# Altium integrated library Micron Memory Parallel NOR Flash.IntLib: 720 symbols (part 12 of 216)
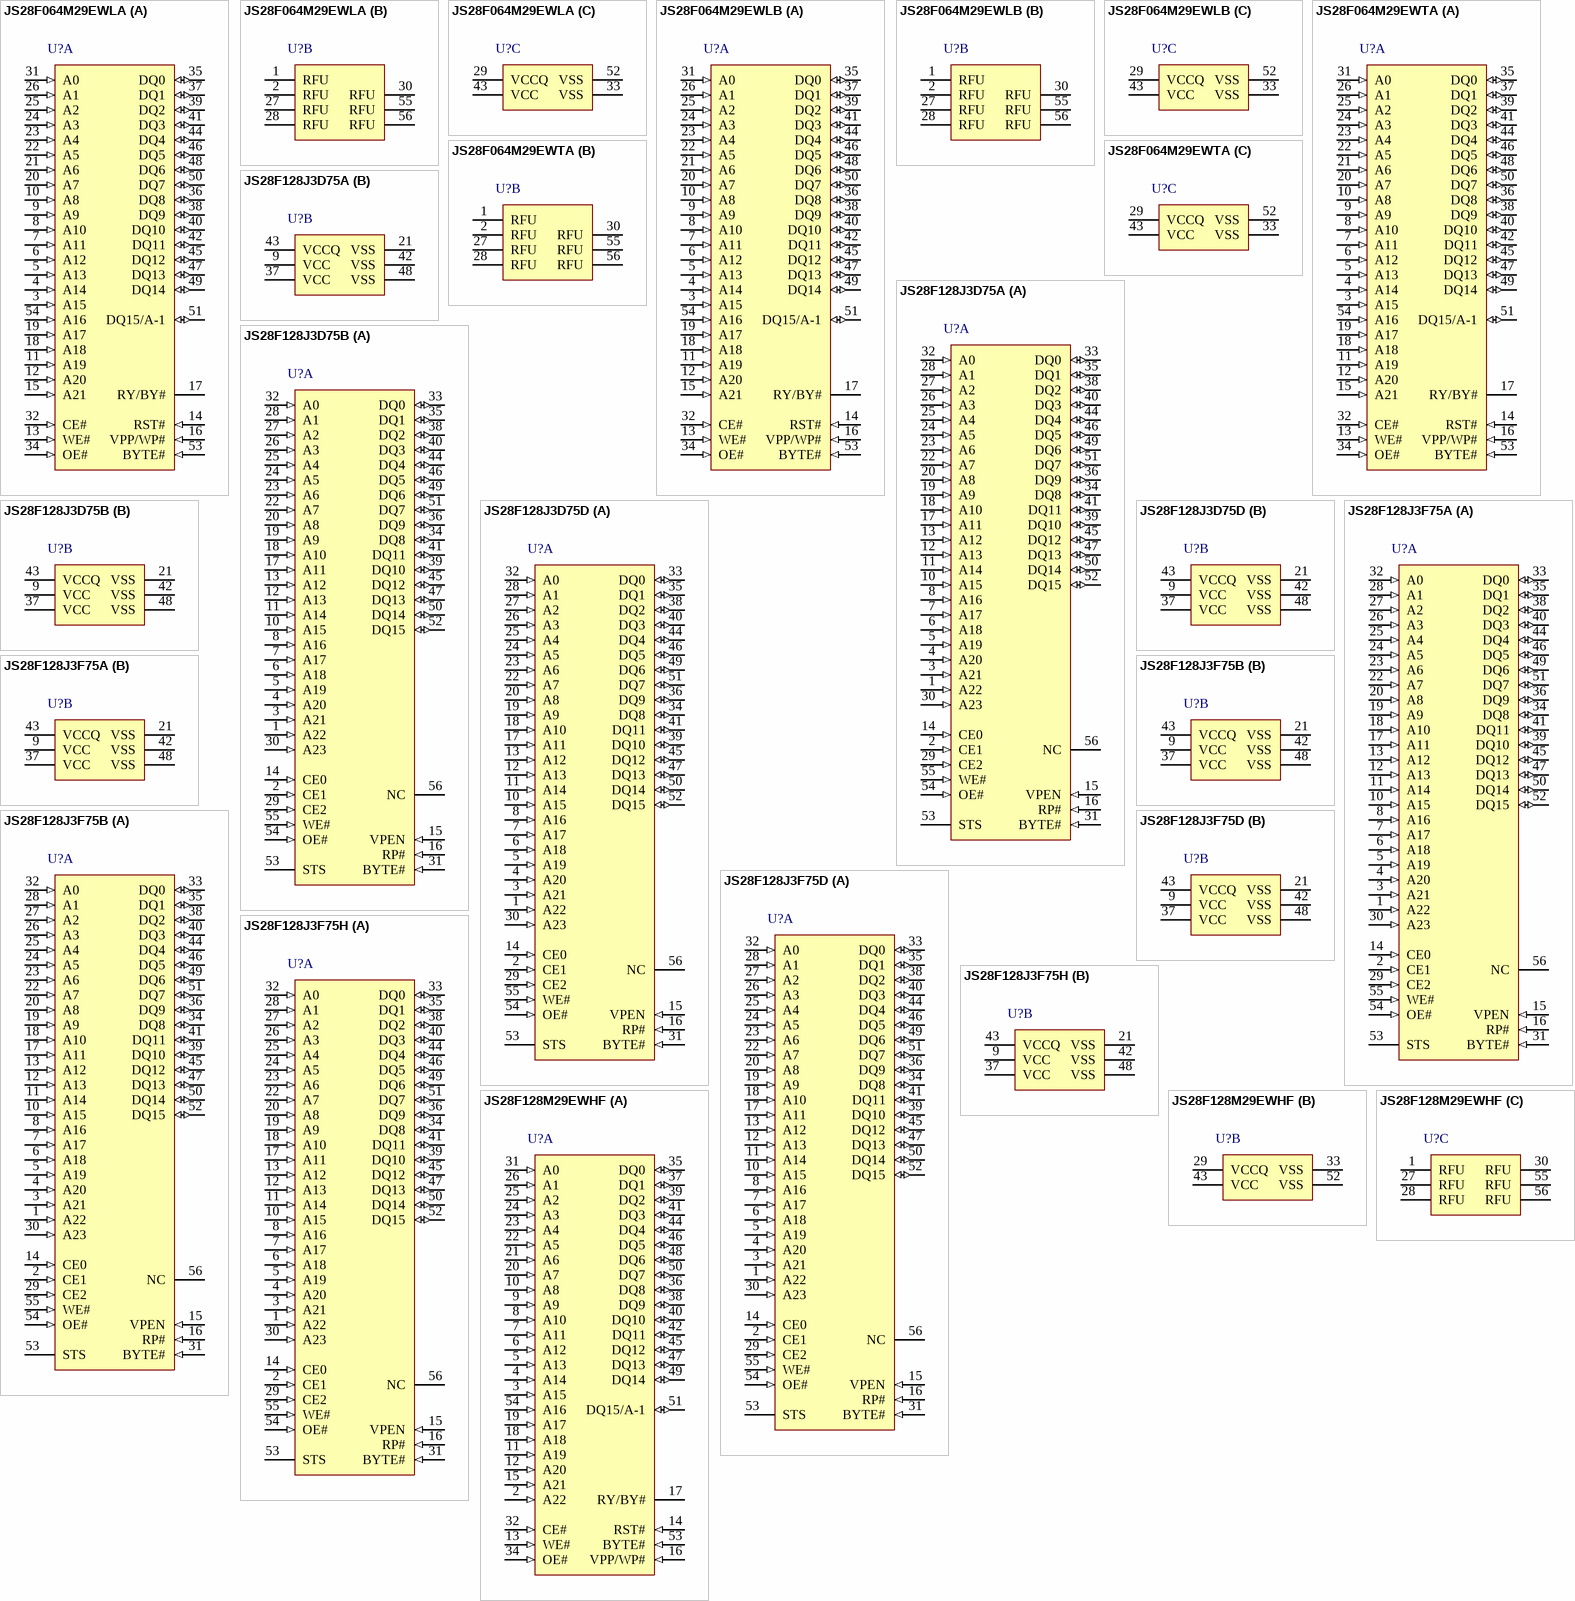
[diagram p75: symbols JS28F064M29EWLA to JS28F128M29EWHF]

## JS28F128M29EWHF
designator U?
128 Mb (x8/x16) Parallel NOR Flash Memory, 70 ns, 2.7 to 3.6 V, 56-pin TSOP (JS), Tray; Part Family: M29EW; Manufacturer: Micron; PartNumber: JS28F128M29EWHF; Density: 128Mb; Op Temp: -40C to +85C; Speed: 70ns; Voltage: 2.7V-3.6V; DatasheetVersion: Rev. A; PackageVersion: Rev. 12; PackageReference: MICT-JS-56; PackageDescription: 56-Pin TSOP, 18.4 X 14 mm, Pitch 0.5 mm; RoHS: Yes; Width: x8/x16; Mounting Technology: Surface Mount; ComponentLink1Description: Manufacturer URL; ComponentLink1URL: http://www.micron.com/; ComponentLink2Description: Datasheet; ComponentLink2URL: http://www.micron.com/~/media/Documents/Products/Data%20Sheet/NOR%20Flash/Parallel/M29EW/m29ew_32mb_128mb.pdf; ComponentLink3Description: Package Specification; ComponentLink3URL: http://www.micron.com/~/media/Documents/Products/Data%20Sheet/NOR%20Flash/Parallel/P33/320003_P33_65nm_MLC_256MDiscrete_512MStack_DS.pdf
footprint MICT-JS-56_N (SOP, 56-Leads, Body 18.6x14.2mm, Pitch 0.5mm, IPC Medium Density)
part A pins: 2 A22 (in) "Address: Selects the cells in the array to access during READ operations. During WRITE operations, they control the commands sent to the command interface of the program/erase controller.", 3 A15 (in) "Address: Selects the cells in the array to access during READ operations. During WRITE operations, they control the commands sent to the command interface of the program/erase controller.", 4 A14 (in) "Address: Selects the cells in the array to access during READ operations. During WRITE operations, they control the commands sent to the command interface of the program/erase controller.", 5 A13 (in) "Address: Selects the cells in the array to access during READ operations. During WRITE operations, they control the commands sent to the command interface of the program/erase controller.", 6 A12 (in) "Address: Selects the cells in the array to access during READ operations. During WRITE operations, they control the commands sent to the command interface of the program/erase controller.", 7 A11 (in) "Address: Selects the cells in the array to access during READ operations. During WRITE operations, they control the commands sent to the command interface of the program/erase controller.", 8 A10 (in) "Address: Selects the cells in the array to access during READ operations. During WRITE operations, they control the commands sent to the command interface of the program/erase controller.", 9 A9 (in) "Address: Selects the cells in the array to access during READ operations. During WRITE operations, they control the commands sent to the command interface of the program/erase controller.", 10 A8 (in) "Address: Selects the cells in the array to access during READ operations. During WRITE operations, they control the commands sent to the command interface of the program/erase controller.", 11 A19 (in) "Address: Selects the cells in the array to access during READ operations. During WRITE operations, they control the commands sent to the command interface of the program/erase controller.", 12 A20 (in) "Address: Selects the cells in the array to access during READ operations. During WRITE operations, they control the commands sent to the command interface of the program/erase controller.", 13 WE# (in) "Write enable: Controls the bus WRITE operation of the command interface.", 14 RST# (in) "Reset: Applies a hardware reset to the device, which is achieved by holding RST# LOW for at least tPLPX. After RST# goes HIGH, the device is ready for READ and WRITE operations (after tPHEL or tRHEL, whichever occurs last). (See Datasheet)", 15 A21 (in) "Address: Selects the cells in the array to access during READ operations. During WRITE operations, they control the commands sent to the command interface of the program/erase controller.", 16 VPP/WP# (in) "VPP/Write Protect: Provides WRITE PROTECT function and VPPH function. These functions protect the lowest or highest block or top two blocks or bottom two blocks, enable the device to enter unlock bypass mode and accelerate (See Datasheet)", 17 RY/BY# (hiz) "Ready busy: Open-drain output that can be used to identify when the device is performing a PROGRAM or ERASE operation. During PROGRAM or ERASE operations, RY/BY# is LOW, and is High-Z during read mode, auto select mode, and (See Datasheet)", 18 A18 (in) "Address: Selects the cells in the array to access during READ operations. During WRITE operations, they control the commands sent to the command interface of the program/erase controller.", 19 A17 (in) "Address: Selects the cells in the array to access during READ operations. During WRITE operations, they control the commands sent to the command interface of the program/erase controller.", 20 A7 (in) "Address: Selects the cells in the array to access during READ operations. During WRITE operations, they control the commands sent to the command interface of the program/erase controller.", 21 A6 (in) "Address: Selects the cells in the array to access during READ operations. During WRITE operations, they control the commands sent to the command interface of the program/erase controller.", 22 A5 (in) "Address: Selects the cells in the array to access during READ operations. During WRITE operations, they control the commands sent to the command interface of the program/erase controller.", 23 A4 (in) "Address: Selects the cells in the array to access during READ operations. During WRITE operations, they control the commands sent to the command interface of the program/erase controller.", 24 A3 (in) "Address: Selects the cells in the array to access during READ operations. During WRITE operations, they control the commands sent to the command interface of the program/erase controller.", 25 A2 (in) "Address: Selects the cells in the array to access during READ operations. During WRITE operations, they control the commands sent to the command interface of the program/erase controller.", 26 A1 (in) "Address: Selects the cells in the array to access during READ operations. During WRITE operations, they control the commands sent to the command interface of the program/erase controller.", 31 A0 (in) "Address: Selects the cells in the array to access during READ operations. During WRITE operations, they control the commands sent to the command interface of the program/erase controller.", 32 CE# (in) "Chip enable: Activates the device, enabling READ and WRITE operations to be performed. When CE# is HIGH, the device goes to standby and data outputs are at HIGH-Z.", 34 OE# (in) "Output enable: Controls the bus READ operation.", 35 DQ0 (io) "Data I/O: Output the data stored at the selected address during a READ operation. During WRITE operations, they represent the commands sent to the command interface of the internal state machine.", 36 DQ8 (io) "Data I/O: Output the data stored at the selected address during a READ operation when BYTE# is HIGH. When BYTE# is LOW, these pins are not used and are High-Z. During WRITE operations, these bits are not used. When reading (See Datasheet)", 37 DQ1 (io) "Data I/O: Output the data stored at the selected address during a READ operation. During WRITE operations, they represent the commands sent to the command interface of the internal state machine.", 38 DQ9 (io) "Data I/O: Output the data stored at the selected address during a READ operation when BYTE# is HIGH. When BYTE# is LOW, these pins are not used and are High-Z. During WRITE operations, these bits are not used. When reading (See Datasheet)", 39 DQ2 (io) "Data I/O: Output the data stored at the selected address during a READ operation. During WRITE operations, they represent the commands sent to the command interface of the internal state machine.", 40 DQ10 (io) "Data I/O: Output the data stored at the selected address during a READ operation when BYTE# is HIGH. When BYTE# is LOW, these pins are not used and are High-Z. During WRITE operations, these bits are not used. When reading (See Datasheet)", 41 DQ3 (io) "Data I/O: Output the data stored at the selected address during a READ operation. During WRITE operations, they represent the commands sent to the command interface of the internal state machine.", 42 DQ11 (io) "Data I/O: Output the data stored at the selected address during a READ operation when BYTE# is HIGH. When BYTE# is LOW, these pins are not used and are High-Z. During WRITE operations, these bits are not used. When reading (See Datasheet)", 44 DQ4 (io) "Data I/O: Output the data stored at the selected address during a READ operation. During WRITE operations, they represent the commands sent to the command interface of the internal state machine.", 45 DQ12 (io) "Data I/O: Output the data stored at the selected address during a READ operation when BYTE# is HIGH. When BYTE# is LOW, these pins are not used and are High-Z. During WRITE operations, these bits are not used. When reading (See Datasheet)", 46 DQ5 (io) "Data I/O: Output the data stored at the selected address during a READ operation. During WRITE operations, they represent the commands sent to the command interface of the internal state machine.", 47 DQ13 (io) "Data I/O: Output the data stored at the selected address during a READ operation when BYTE# is HIGH. When BYTE# is LOW, these pins are not used and are High-Z. During WRITE operations, these bits are not used. When reading (See Datasheet)", 48 DQ6 (io) "Data I/O: Output the data stored at the selected address during a READ operation. During WRITE operations, they represent the commands sent to the command interface of the internal state machine.", 49 DQ14 (io) "Data I/O: Output the data stored at the selected address during a READ operation when BYTE# is HIGH. When BYTE# is LOW, these pins are not used and are High-Z. During WRITE operations, these bits are not used. When reading (See Datasheet)", 50 DQ7 (io) "Data I/O: Output the data stored at the selected address during a READ operation. During WRITE operations, they represent the commands sent to the command interface of the internal state machine.", 51 DQ15/A-1 (io) "Data I/O or address input: When the device operates in x16 bus mode, this pin behaves as data I/O, together with DQ[14:8]. When the device operates in x8 bus mode, this pin behaves as the least significant bit of the address.(See Datasheet)", 53 BYTE# (in) "Byte/word organization select: Switches between x8 and x16 bus modes. When BYTE# is LOW, the device is in x8 mode; when HIGH, the device is in x16 mode.", 54 A16 (in) "Address: Selects the cells in the array to access during READ operations. During WRITE operations, they control the commands sent to the command interface of the program/erase controller."
part B pins: 29 VCCQ (power) "I/O supply voltage: Provides the power supply to the I/O pins and enables all outputs to be powered independently from VCC.", 33 VSS (power) "Ground: All VSS pins must be connected to the system ground.", 43 VCC (power) "Supply voltage: Provides the power supply for READ, PROGRAM, and ERASE operations. The command interface is disabled when VCC <= VLKO. This prevents WRITE operations from accidentally damaging the data during power-up, (See Datasheet)", 52 VSS (power) "Ground: All VSS pins must be connected to the system ground."
part C pins: 1 RFU "Reserved for future use: RFUs should be not connected.", 27 RFU "Reserved for future use: RFUs should be not connected.", 28 RFU "Reserved for future use: RFUs should be not connected.", 30 RFU "Reserved for future use: RFUs should be not connected.", 55 RFU "Reserved for future use: RFUs should be not connected.", 56 RFU "Reserved for future use: RFUs should be not connected."

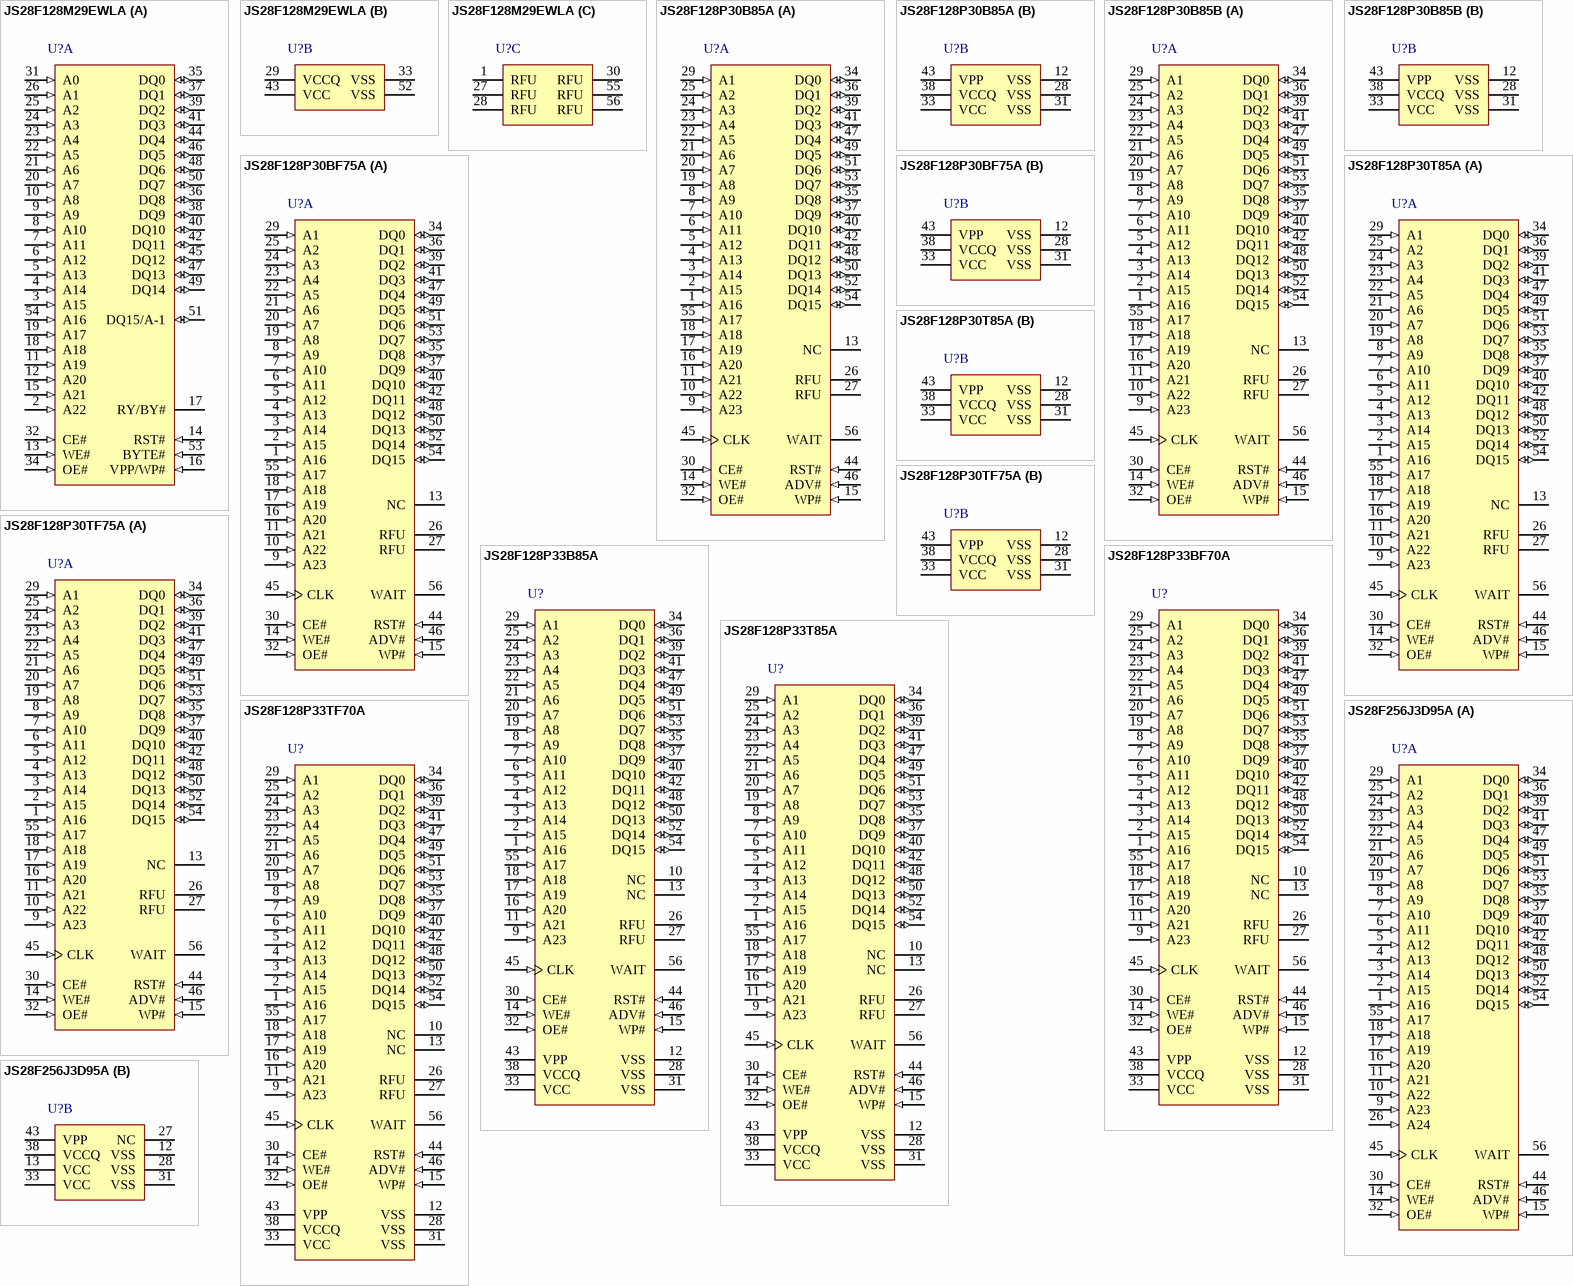
[diagram p3: symbols JS28F128M29EWLA to JS28F256J3D95A]

## JS28F128M29EWLA
designator U?
128 Mb (x8/x16) Parallel NOR Flash Memory, 70 ns, 2.7 to 3.6 V, 56-pin TSOP (JS), Tray; Part Family: M29EW; Manufacturer: Micron; PartNumber: JS28F128M29EWLA; Density: 128Mb; Op Temp: -40C to +85C; Speed: 70ns; Voltage: 2.7V-3.6V; DatasheetVersion: Rev. A; PackageVersion: Rev. 12; PackageReference: MICT-JS-56; PackageDescription: 56-Pin TSOP, 18.4 X 14 mm, Pitch 0.5 mm; RoHS: Yes; Width: x8/x16; Mounting Technology: Surface Mount; ComponentLink1Description: Manufacturer URL; ComponentLink1URL: http://www.micron.com/; ComponentLink2Description: Datasheet; ComponentLink2URL: http://www.micron.com/~/media/Documents/Products/Data%20Sheet/NOR%20Flash/Parallel/M29EW/m29ew_32mb_128mb.pdf; ComponentLink3Description: Package Specification; ComponentLink3URL: http://www.micron.com/~/media/Documents/Products/Data%20Sheet/NOR%20Flash/Parallel/P33/320003_P33_65nm_MLC_256MDiscrete_512MStack_DS.pdf
footprint MICT-JS-56_N (SOP, 56-Leads, Body 18.6x14.2mm, Pitch 0.5mm, IPC Medium Density)
part A pins: 2 A22 (in) "Address: Selects the cells in the array to access during READ operations. During WRITE operations, they control the commands sent to the command interface of the program/erase controller.", 3 A15 (in) "Address: Selects the cells in the array to access during READ operations. During WRITE operations, they control the commands sent to the command interface of the program/erase controller.", 4 A14 (in) "Address: Selects the cells in the array to access during READ operations. During WRITE operations, they control the commands sent to the command interface of the program/erase controller.", 5 A13 (in) "Address: Selects the cells in the array to access during READ operations. During WRITE operations, they control the commands sent to the command interface of the program/erase controller.", 6 A12 (in) "Address: Selects the cells in the array to access during READ operations. During WRITE operations, they control the commands sent to the command interface of the program/erase controller.", 7 A11 (in) "Address: Selects the cells in the array to access during READ operations. During WRITE operations, they control the commands sent to the command interface of the program/erase controller.", 8 A10 (in) "Address: Selects the cells in the array to access during READ operations. During WRITE operations, they control the commands sent to the command interface of the program/erase controller.", 9 A9 (in) "Address: Selects the cells in the array to access during READ operations. During WRITE operations, they control the commands sent to the command interface of the program/erase controller.", 10 A8 (in) "Address: Selects the cells in the array to access during READ operations. During WRITE operations, they control the commands sent to the command interface of the program/erase controller.", 11 A19 (in) "Address: Selects the cells in the array to access during READ operations. During WRITE operations, they control the commands sent to the command interface of the program/erase controller.", 12 A20 (in) "Address: Selects the cells in the array to access during READ operations. During WRITE operations, they control the commands sent to the command interface of the program/erase controller.", 13 WE# (in) "Write enable: Controls the bus WRITE operation of the command interface.", 14 RST# (in) "Reset: Applies a hardware reset to the device, which is achieved by holding RST# LOW for at least tPLPX. After RST# goes HIGH, the device is ready for READ and WRITE operations (after tPHEL or tRHEL, whichever occurs last). (See Datasheet)", 15 A21 (in) "Address: Selects the cells in the array to access during READ operations. During WRITE operations, they control the commands sent to the command interface of the program/erase controller.", 16 VPP/WP# (in) "VPP/Write Protect: Provides WRITE PROTECT function and VPPH function. These functions protect the lowest or highest block or top two blocks or bottom two blocks, enable the device to enter unlock bypass mode and accelerate (See Datasheet)", 17 RY/BY# (hiz) "Ready busy: Open-drain output that can be used to identify when the device is performing a PROGRAM or ERASE operation. During PROGRAM or ERASE operations, RY/BY# is LOW, and is High-Z during read mode, auto select mode, and (See Datasheet)", 18 A18 (in) "Address: Selects the cells in the array to access during READ operations. During WRITE operations, they control the commands sent to the command interface of the program/erase controller.", 19 A17 (in) "Address: Selects the cells in the array to access during READ operations. During WRITE operations, they control the commands sent to the command interface of the program/erase controller.", 20 A7 (in) "Address: Selects the cells in the array to access during READ operations. During WRITE operations, they control the commands sent to the command interface of the program/erase controller.", 21 A6 (in) "Address: Selects the cells in the array to access during READ operations. During WRITE operations, they control the commands sent to the command interface of the program/erase controller.", 22 A5 (in) "Address: Selects the cells in the array to access during READ operations. During WRITE operations, they control the commands sent to the command interface of the program/erase controller.", 23 A4 (in) "Address: Selects the cells in the array to access during READ operations. During WRITE operations, they control the commands sent to the command interface of the program/erase controller.", 24 A3 (in) "Address: Selects the cells in the array to access during READ operations. During WRITE operations, they control the commands sent to the command interface of the program/erase controller.", 25 A2 (in) "Address: Selects the cells in the array to access during READ operations. During WRITE operations, they control the commands sent to the command interface of the program/erase controller.", 26 A1 (in) "Address: Selects the cells in the array to access during READ operations. During WRITE operations, they control the commands sent to the command interface of the program/erase controller.", 31 A0 (in) "Address: Selects the cells in the array to access during READ operations. During WRITE operations, they control the commands sent to the command interface of the program/erase controller.", 32 CE# (in) "Chip enable: Activates the device, enabling READ and WRITE operations to be performed. When CE# is HIGH, the device goes to standby and data outputs are at HIGH-Z.", 34 OE# (in) "Output enable: Controls the bus READ operation.", 35 DQ0 (io) "Data I/O: Output the data stored at the selected address during a READ operation. During WRITE operations, they represent the commands sent to the command interface of the internal state machine.", 36 DQ8 (io) "Data I/O: Output the data stored at the selected address during a READ operation when BYTE# is HIGH. When BYTE# is LOW, these pins are not used and are High-Z. During WRITE operations, these bits are not used. When reading (See Datasheet)", 37 DQ1 (io) "Data I/O: Output the data stored at the selected address during a READ operation. During WRITE operations, they represent the commands sent to the command interface of the internal state machine.", 38 DQ9 (io) "Data I/O: Output the data stored at the selected address during a READ operation when BYTE# is HIGH. When BYTE# is LOW, these pins are not used and are High-Z. During WRITE operations, these bits are not used. When reading (See Datasheet)", 39 DQ2 (io) "Data I/O: Output the data stored at the selected address during a READ operation. During WRITE operations, they represent the commands sent to the command interface of the internal state machine.", 40 DQ10 (io) "Data I/O: Output the data stored at the selected address during a READ operation when BYTE# is HIGH. When BYTE# is LOW, these pins are not used and are High-Z. During WRITE operations, these bits are not used. When reading (See Datasheet)", 41 DQ3 (io) "Data I/O: Output the data stored at the selected address during a READ operation. During WRITE operations, they represent the commands sent to the command interface of the internal state machine.", 42 DQ11 (io) "Data I/O: Output the data stored at the selected address during a READ operation when BYTE# is HIGH. When BYTE# is LOW, these pins are not used and are High-Z. During WRITE operations, these bits are not used. When reading (See Datasheet)", 44 DQ4 (io) "Data I/O: Output the data stored at the selected address during a READ operation. During WRITE operations, they represent the commands sent to the command interface of the internal state machine.", 45 DQ12 (io) "Data I/O: Output the data stored at the selected address during a READ operation when BYTE# is HIGH. When BYTE# is LOW, these pins are not used and are High-Z. During WRITE operations, these bits are not used. When reading (See Datasheet)", 46 DQ5 (io) "Data I/O: Output the data stored at the selected address during a READ operation. During WRITE operations, they represent the commands sent to the command interface of the internal state machine.", 47 DQ13 (io) "Data I/O: Output the data stored at the selected address during a READ operation when BYTE# is HIGH. When BYTE# is LOW, these pins are not used and are High-Z. During WRITE operations, these bits are not used. When reading (See Datasheet)", 48 DQ6 (io) "Data I/O: Output the data stored at the selected address during a READ operation. During WRITE operations, they represent the commands sent to the command interface of the internal state machine.", 49 DQ14 (io) "Data I/O: Output the data stored at the selected address during a READ operation when BYTE# is HIGH. When BYTE# is LOW, these pins are not used and are High-Z. During WRITE operations, these bits are not used. When reading (See Datasheet)", 50 DQ7 (io) "Data I/O: Output the data stored at the selected address during a READ operation. During WRITE operations, they represent the commands sent to the command interface of the internal state machine.", 51 DQ15/A-1 (io) "Data I/O or address input: When the device operates in x16 bus mode, this pin behaves as data I/O, together with DQ[14:8]. When the device operates in x8 bus mode, this pin behaves as the least significant bit of the address.(See Datasheet)", 53 BYTE# (in) "Byte/word organization select: Switches between x8 and x16 bus modes. When BYTE# is LOW, the device is in x8 mode; when HIGH, the device is in x16 mode.", 54 A16 (in) "Address: Selects the cells in the array to access during READ operations. During WRITE operations, they control the commands sent to the command interface of the program/erase controller."
part B pins: 29 VCCQ (power) "I/O supply voltage: Provides the power supply to the I/O pins and enables all outputs to be powered independently from VCC.", 33 VSS (power) "Ground: All VSS pins must be connected to the system ground.", 43 VCC (power) "Supply voltage: Provides the power supply for READ, PROGRAM, and ERASE operations. The command interface is disabled when VCC <= VLKO. This prevents WRITE operations from accidentally damaging the data during power-up, (See Datasheet)", 52 VSS (power) "Ground: All VSS pins must be connected to the system ground."
part C pins: 1 RFU "Reserved for future use: RFUs should be not connected.", 27 RFU "Reserved for future use: RFUs should be not connected.", 28 RFU "Reserved for future use: RFUs should be not connected.", 30 RFU "Reserved for future use: RFUs should be not connected.", 55 RFU "Reserved for future use: RFUs should be not connected.", 56 RFU "Reserved for future use: RFUs should be not connected."

## JS28F128P30B85A
designator U?
128 Mb (x16) Parallel NOR Flash Memory, 85 ns, 1.7 to 2.0 V, 56-pin TSOP (JS), Tray; Part Family: P30; Manufacturer: Micron; PartNumber: JS28F128P30B85A; Density: 128Mb; Op Temp: -40C to +85C; Speed: 85ns; Voltage: 1.7V-2.0V; DatasheetVersion: Rev. 12; PackageVersion: Rev. 12; PackageReference: MICT-JS-56; PackageDescription: 56-Pin TSOP, 18.4 X 14 mm, Pitch 0.5 mm; RoHS: Yes; Width: x16; Mounting Technology: Surface Mount; ComponentLink1Description: Manufacturer URL; ComponentLink1URL: http://www.micron.com/; ComponentLink2Description: Datasheet; ComponentLink2URL: http://www.micron.com/~/media/Documents/Products/Data%20Sheet/NOR%20Flash/Parallel/P33/320003_P33_65nm_MLC_256MDiscrete_512MStack_DS.pdf; ComponentLink3Description: Package Specification; ComponentLink3URL: http://www.micron.com/~/media/Documents/Products/Data%20Sheet/NOR%20Flash/Parallel/P33/320003_P33_65nm_MLC_256MDiscrete_512MStack_DS.pdf
footprint MICT-JS-56_N (SOP, 56-Leads, Body 18.6x14.2mm, Pitch 0.5mm, IPC Medium Density)
part A pins: 1 A16 (in) "ADDRESS INPUT: Device Address Input. 128-Mbit: A[23:1].", 2 A15 (in) "ADDRESS INPUT: Device Address Input. 128-Mbit: A[23:1].", 3 A14 (in) "ADDRESS INPUT: Device Address Input. 128-Mbit: A[23:1].", 4 A13 (in) "ADDRESS INPUT: Device Address Input. 128-Mbit: A[23:1].", 5 A12 (in) "ADDRESS INPUT: Device Address Input. 128-Mbit: A[23:1].", 6 A11 (in) "ADDRESS INPUT: Device Address Input. 128-Mbit: A[23:1].", 7 A10 (in) "ADDRESS INPUT: Device Address Input. 128-Mbit: A[23:1].", 8 A9 (in) "ADDRESS INPUT: Device Address Input. 128-Mbit: A[23:1].", 9 A23 (in) "ADDRESS INPUT: Device Address Input. 128-Mbit: A[23:1].", 10 A22 (in) "ADDRESS INPUT: Device Address Input. 128-Mbit: A[23:1].", 11 A21 (in) "ADDRESS INPUT: Device Address Input. 128-Mbit: A[23:1].", 13 NC "NO CONNECT: No internal connection; can be driven or floated.", 14 WE# (in) "WRITE ENABLE: Active low input. WE# controls writes to the device. Address and data are latched on the rising edge of WE#.", 15 WP# (in) "WRITE PROTECT: Active low input. WP# low enables the lock-down mechanism. Blocks in lockdown cannot be unlocked with the Unlock command. WP# high overrides the lock-down function enabling blocks to be erased or programmed (See Datasheet)", 16 A20 (in) "ADDRESS INPUT: Device Address Input. 128-Mbit: A[23:1].", 17 A19 (in) "ADDRESS INPUT: Device Address Input. 128-Mbit: A[23:1].", 18 A18 (in) "ADDRESS INPUT: Device Address Input. 128-Mbit: A[23:1].", 19 A8 (in) "ADDRESS INPUT: Device Address Input. 128-Mbit: A[23:1].", 20 A7 (in) "ADDRESS INPUT: Device Address Input. 128-Mbit: A[23:1].", 21 A6 (in) "ADDRESS INPUT: Device Address Input. 128-Mbit: A[23:1].", 22 A5 (in) "ADDRESS INPUT: Device Address Input. 128-Mbit: A[23:1].", 23 A4 (in) "ADDRESS INPUT: Device Address Input. 128-Mbit: A[23:1].", 24 A3 (in) "ADDRESS INPUT: Device Address Input. 128-Mbit: A[23:1].", 25 A2 (in) "ADDRESS INPUT: Device Address Input. 128-Mbit: A[23:1].", 26 RFU "RESERVED FOR FUTURE USE: Reserved by Numonyx for future device functionality and  enhancement. These should be treated in the same way as a Don’t Use (DU) signal.", 27 RFU "RESERVED FOR FUTURE USE: Reserved by Numonyx for future device functionality and  enhancement. These should be treated in the same way as a Don’t Use (DU) signal.", 29 A1 (in) "ADDRESS INPUT: Device Address Input. 128-Mbit: A[23:1].", 30 CE# (in) "CHIP ENABLE: Active low input. CE# low selects the associated flash memory die. When asserted, flash internal control logic, input buffers, decoders, and sense amplifiers are active. When deasserted, the associated flash die (See Datasheet)", 32 OE# (in) "OUTPUT ENABLE: Active low input. OE# low enables the device’s output data buffers during read cycles. OE# high places the data outputs and WAIT in High-Z.", 34 DQ0 (io) "DATA INPUT/OUTPUT: Input data and commands during write cycles; Output data during  reads of memory, Status Register, OTP Register, and Read Configuration Register. Data balls float  when the CE# or OE# are deasserted. Data (See Datasheet)", 35 DQ8 (io) "DATA INPUT/OUTPUT: Input data and commands during write cycles; Output data during  reads of memory, Status Register, OTP Register, and Read Configuration Register. Data balls float  when the CE# or OE# are deasserted. Data (See Datasheet)", 36 DQ1 (io) "DATA INPUT/OUTPUT: Input data and commands during write cycles; Output data during  reads of memory, Status Register, OTP Register, and Read Configuration Register. Data balls float  when the CE# or OE# are deasserted. Data (See Datasheet)", 37 DQ9 (io) "DATA INPUT/OUTPUT: Input data and commands during write cycles; Output data during  reads of memory, Status Register, OTP Register, and Read Configuration Register. Data balls float  when the CE# or OE# are deasserted. Data (See Datasheet)", 39 DQ2 (io) "DATA INPUT/OUTPUT: Input data and commands during write cycles; Output data during  reads of memory, Status Register, OTP Register, and Read Configuration Register. Data balls float  when the CE# or OE# are deasserted. Data (See Datasheet)", 40 DQ10 (io) "DATA INPUT/OUTPUT: Input data and commands during write cycles; Outputs data during  reads of memory, Status Register, OTP Register, and Read Configuration Register. Data balls float  when the CE# or OE# are deasserted. Data (See Datasheet)", 41 DQ3 (io) "DATA INPUT/OUTPUT: Input data and commands during write cycles; Output data during  reads of memory, Status Register, OTP Register, and Read Configuration Register. Data balls float  when the CE# or OE# are deasserted. Data (See Datasheet)", 42 DQ11 (io) "DATA INPUT/OUTPUT: Input data and commands during write cycles; Output data during  reads of memory, Status Register, OTP Register, and Read Configuration Register. Data balls float  when the CE# or OE# are deasserted. Data (See Datasheet)", 44 RST# (in) "RESET: Active low input. RST# resets internal automation and inhibits write operations. This provides data protection during power transitions. RST# high enables normal operation. Exit from reset places the device in (See Datasheet)", 45 CLK (in) "CLOCK: Synchronizes the device with the system’s bus frequency in synchronous-read mode. During synchronous read operations, addresses are latched on the rising edge of ADV#, or on the next valid CLK edge with ADV# low, (See Datasheet)", 46 ADV# (in) "ADDRESS VALID: Active low input. During synchronous read operations, addresses are latched on the rising edge of ADV#, or on the next valid CLK edge with ADV# low, whichever occurs first. In asynchronous mode, the address is (See Datasheet)", 47 DQ4 (io) "DATA INPUT/OUTPUT: Input data and commands during write cycles; Output data during  reads of memory, Status Register, OTP Register, and Read Configuration Register. Data balls float  when the CE# or OE# are deasserted. Data (See Datasheet)", 48 DQ12 (io) "DATA INPUT/OUTPUT: Input data and commands during write cycles; Output data during  reads of memory, Status Register, OTP Register, and Read Configuration Register. Data balls float  when the CE# or OE# are deasserted. Data (See Datasheet)", 49 DQ5 (io) "DATA INPUT/OUTPUT: Input data and commands during write cycles; Output data during  reads of memory, Status Register, OTP Register, and Read Configuration Register. Data balls float  when the CE# or OE# are deasserted. Data (See Datasheet)", 50 DQ13 (io) "DATA INPUT/OUTPUT: Input data and commands during write cycles; Output data during  reads of memory, Status Register, OTP Register, and Read Configuration Register. Data balls float  when the CE# or OE# are deasserted. Data (See Datasheet)", 51 DQ6 (io) "DATA INPUT/OUTPUT: Input data and commands during write cycles; Output data during  reads of memory, Status Register, OTP Register, and Read Configuration Register. Data balls float  when the CE# or OE# are deasserted. Data (See Datasheet)", 52 DQ14 (io) "DATA INPUT/OUTPUT: Input data and commands during write cycles; Output data during  reads of memory, Status Register, OTP Register, and Read Configuration Register. Data balls float  when the CE# or OE# are deasserted. Data (See Datasheet)", 53 DQ7 (io) "DATA INPUT/OUTPUT: Input data and commands during write cycles; Output data during  reads of memory, Status Register, OTP Register, and Read Configuration Register. Data balls float  when the CE# or OE# are deasserted. Data (See Datasheet)", 54 DQ15 (io) "DATA INPUT/OUTPUT: Input data and commands during write cycles; Output data during  reads of memory, Status Register, OTP Register, and Read Configuration Register. Data balls float  when the CE# or OE# are deasserted. Data (See Datasheet)", 55 A17 (in) "ADDRESS INPUT: Device Address Input. 128-Mbit: A[23:1].", 56 WAIT (hiz) "WAIT: Indicates data valid in synchronous array or non-array burst reads. RCR.10, (WT) determines its polarity when asserted. WAIT’s active output is VOL or VOH when CE# and OE# are VIL. WAIT is  high-Z if CE# or OE# is VIH. (See Datasheet)"
part B pins: 12 VSS (power) "GROUND: Connect to system ground. Do not float any VSS connection.", 28 VSS (power) "GROUND: Connect to system ground. Do not float any VSS connection.", 31 VSS (power) "GROUND: Connect to system ground. Do not float any VSS connection.", 33 VCC (power) "DEVICE CORE POWER SUPPLY: Core (logic) source voltage. Writes to the flash array are inhibited  when VCC =< VLKO. Operations at invalid VCC voltages should not be attempted.", 38 VCCQ (power) "OUTPUT POWER SUPPLY: Output-driver source voltage.", 43 VPP (power) "ERASE AND PROGRAM POWER: A valid voltage on this pin allows erasing or programming.  Memory contents cannot be altered when VPP =< VPPLK. Block erase and program at invalid VPP  voltages should not be attempted. Set VPP = (See Datasheet)"

## JS28F128P30B85B
designator U?
128 Mb (x16) Parallel NOR Flash Memory, 85 ns, 1.7 to 2.0 V, 56-pin TSOP (JS), Tape & Reel; Part Family: P30; Manufacturer: Micron; PartNumber: JS28F128P30B85B; Density: 128Mb; Op Temp: -40C to +85C; Speed: 85ns; Voltage: 1.7V-2.0V; DatasheetVersion: Rev. 12; PackageVersion: Rev. 12; PackageReference: MICT-JS-56; PackageDescription: 56-Pin TSOP, 18.4 X 14 mm, Pitch 0.5 mm; RoHS: Yes; Width: x16; Mounting Technology: Surface Mount; ComponentLink1Description: Manufacturer URL; ComponentLink1URL: http://www.micron.com/; ComponentLink2Description: Datasheet; ComponentLink2URL: http://www.micron.com/~/media/Documents/Products/Data%20Sheet/NOR%20Flash/Parallel/P33/320003_P33_65nm_MLC_256MDiscrete_512MStack_DS.pdf; ComponentLink3Description: Package Specification; ComponentLink3URL: http://www.micron.com/~/media/Documents/Products/Data%20Sheet/NOR%20Flash/Parallel/P33/320003_P33_65nm_MLC_256MDiscrete_512MStack_DS.pdf
footprint MICT-JS-56_N (SOP, 56-Leads, Body 18.6x14.2mm, Pitch 0.5mm, IPC Medium Density)
part A pins: 1 A16 (in) "ADDRESS INPUT: Device Address Input. 128-Mbit: A[23:1].", 2 A15 (in) "ADDRESS INPUT: Device Address Input. 128-Mbit: A[23:1].", 3 A14 (in) "ADDRESS INPUT: Device Address Input. 128-Mbit: A[23:1].", 4 A13 (in) "ADDRESS INPUT: Device Address Input. 128-Mbit: A[23:1].", 5 A12 (in) "ADDRESS INPUT: Device Address Input. 128-Mbit: A[23:1].", 6 A11 (in) "ADDRESS INPUT: Device Address Input. 128-Mbit: A[23:1].", 7 A10 (in) "ADDRESS INPUT: Device Address Input. 128-Mbit: A[23:1].", 8 A9 (in) "ADDRESS INPUT: Device Address Input. 128-Mbit: A[23:1].", 9 A23 (in) "ADDRESS INPUT: Device Address Input. 128-Mbit: A[23:1].", 10 A22 (in) "ADDRESS INPUT: Device Address Input. 128-Mbit: A[23:1].", 11 A21 (in) "ADDRESS INPUT: Device Address Input. 128-Mbit: A[23:1].", 13 NC "NO CONNECT: No internal connection; can be driven or floated.", 14 WE# (in) "WRITE ENABLE: Active low input. WE# controls writes to the device. Address and data are latched on the rising edge of WE#.", 15 WP# (in) "WRITE PROTECT: Active low input. WP# low enables the lock-down mechanism. Blocks in lockdown cannot be unlocked with the Unlock command. WP# high overrides the lock-down function enabling blocks to be erased or programmed (See Datasheet)", 16 A20 (in) "ADDRESS INPUT: Device Address Input. 128-Mbit: A[23:1].", 17 A19 (in) "ADDRESS INPUT: Device Address Input. 128-Mbit: A[23:1].", 18 A18 (in) "ADDRESS INPUT: Device Address Input. 128-Mbit: A[23:1].", 19 A8 (in) "ADDRESS INPUT: Device Address Input. 128-Mbit: A[23:1].", 20 A7 (in) "ADDRESS INPUT: Device Address Input. 128-Mbit: A[23:1].", 21 A6 (in) "ADDRESS INPUT: Device Address Input. 128-Mbit: A[23:1].", 22 A5 (in) "ADDRESS INPUT: Device Address Input. 128-Mbit: A[23:1].", 23 A4 (in) "ADDRESS INPUT: Device Address Input. 128-Mbit: A[23:1].", 24 A3 (in) "ADDRESS INPUT: Device Address Input. 128-Mbit: A[23:1].", 25 A2 (in) "ADDRESS INPUT: Device Address Input. 128-Mbit: A[23:1].", 26 RFU "RESERVED FOR FUTURE USE: Reserved by Numonyx for future device functionality and  enhancement. These should be treated in the same way as a Don’t Use (DU) signal.", 27 RFU "RESERVED FOR FUTURE USE: Reserved by Numonyx for future device functionality and  enhancement. These should be treated in the same way as a Don’t Use (DU) signal.", 29 A1 (in) "ADDRESS INPUT: Device Address Input. 128-Mbit: A[23:1].", 30 CE# (in) "CHIP ENABLE: Active low input. CE# low selects the associated flash memory die. When asserted, flash internal control logic, input buffers, decoders, and sense amplifiers are active. When deasserted, the associated flash die (See Datasheet)", 32 OE# (in) "OUTPUT ENABLE: Active low input. OE# low enables the device’s output data buffers during read cycles. OE# high places the data outputs and WAIT in High-Z.", 34 DQ0 (io) "DATA INPUT/OUTPUT: Input data and commands during write cycles; Output data during  reads of memory, Status Register, OTP Register, and Read Configuration Register. Data balls float  when the CE# or OE# are deasserted. Data (See Datasheet)", 35 DQ8 (io) "DATA INPUT/OUTPUT: Input data and commands during write cycles; Output data during  reads of memory, Status Register, OTP Register, and Read Configuration Register. Data balls float  when the CE# or OE# are deasserted. Data (See Datasheet)", 36 DQ1 (io) "DATA INPUT/OUTPUT: Input data and commands during write cycles; Output data during  reads of memory, Status Register, OTP Register, and Read Configuration Register. Data balls float  when the CE# or OE# are deasserted. Data (See Datasheet)", 37 DQ9 (io) "DATA INPUT/OUTPUT: Input data and commands during write cycles; Output data during  reads of memory, Status Register, OTP Register, and Read Configuration Register. Data balls float  when the CE# or OE# are deasserted. Data (See Datasheet)", 39 DQ2 (io) "DATA INPUT/OUTPUT: Input data and commands during write cycles; Output data during  reads of memory, Status Register, OTP Register, and Read Configuration Register. Data balls float  when the CE# or OE# are deasserted. Data (See Datasheet)", 40 DQ10 (io) "DATA INPUT/OUTPUT: Input data and commands during write cycles; Outputs data during  reads of memory, Status Register, OTP Register, and Read Configuration Register. Data balls float  when the CE# or OE# are deasserted. Data (See Datasheet)", 41 DQ3 (io) "DATA INPUT/OUTPUT: Input data and commands during write cycles; Output data during  reads of memory, Status Register, OTP Register, and Read Configuration Register. Data balls float  when the CE# or OE# are deasserted. Data (See Datasheet)", 42 DQ11 (io) "DATA INPUT/OUTPUT: Input data and commands during write cycles; Output data during  reads of memory, Status Register, OTP Register, and Read Configuration Register. Data balls float  when the CE# or OE# are deasserted. Data (See Datasheet)", 44 RST# (in) "RESET: Active low input. RST# resets internal automation and inhibits write operations. This provides data protection during power transitions. RST# high enables normal operation. Exit from reset places the device in (See Datasheet)", 45 CLK (in) "CLOCK: Synchronizes the device with the system’s bus frequency in synchronous-read mode. During synchronous read operations, addresses are latched on the rising edge of ADV#, or on the next valid CLK edge with ADV# low, (See Datasheet)", 46 ADV# (in) "ADDRESS VALID: Active low input. During synchronous read operations, addresses are latched on the rising edge of ADV#, or on the next valid CLK edge with ADV# low, whichever occurs first. In asynchronous mode, the address is (See Datasheet)", 47 DQ4 (io) "DATA INPUT/OUTPUT: Input data and commands during write cycles; Output data during  reads of memory, Status Register, OTP Register, and Read Configuration Register. Data balls float  when the CE# or OE# are deasserted. Data (See Datasheet)", 48 DQ12 (io) "DATA INPUT/OUTPUT: Input data and commands during write cycles; Output data during  reads of memory, Status Register, OTP Register, and Read Configuration Register. Data balls float  when the CE# or OE# are deasserted. Data (See Datasheet)", 49 DQ5 (io) "DATA INPUT/OUTPUT: Input data and commands during write cycles; Output data during  reads of memory, Status Register, OTP Register, and Read Configuration Register. Data balls float  when the CE# or OE# are deasserted. Data (See Datasheet)", 50 DQ13 (io) "DATA INPUT/OUTPUT: Input data and commands during write cycles; Output data during  reads of memory, Status Register, OTP Register, and Read Configuration Register. Data balls float  when the CE# or OE# are deasserted. Data (See Datasheet)", 51 DQ6 (io) "DATA INPUT/OUTPUT: Input data and commands during write cycles; Output data during  reads of memory, Status Register, OTP Register, and Read Configuration Register. Data balls float  when the CE# or OE# are deasserted. Data (See Datasheet)", 52 DQ14 (io) "DATA INPUT/OUTPUT: Input data and commands during write cycles; Output data during  reads of memory, Status Register, OTP Register, and Read Configuration Register. Data balls float  when the CE# or OE# are deasserted. Data (See Datasheet)", 53 DQ7 (io) "DATA INPUT/OUTPUT: Input data and commands during write cycles; Output data during  reads of memory, Status Register, OTP Register, and Read Configuration Register. Data balls float  when the CE# or OE# are deasserted. Data (See Datasheet)", 54 DQ15 (io) "DATA INPUT/OUTPUT: Input data and commands during write cycles; Output data during  reads of memory, Status Register, OTP Register, and Read Configuration Register. Data balls float  when the CE# or OE# are deasserted. Data (See Datasheet)", 55 A17 (in) "ADDRESS INPUT: Device Address Input. 128-Mbit: A[23:1].", 56 WAIT (hiz) "WAIT: Indicates data valid in synchronous array or non-array burst reads. RCR.10, (WT) determines its polarity when asserted. WAIT’s active output is VOL or VOH when CE# and OE# are VIL. WAIT is  high-Z if CE# or OE# is VIH. (See Datasheet)"
part B pins: 12 VSS (power) "GROUND: Connect to system ground. Do not float any VSS connection.", 28 VSS (power) "GROUND: Connect to system ground. Do not float any VSS connection.", 31 VSS (power) "GROUND: Connect to system ground. Do not float any VSS connection.", 33 VCC (power) "DEVICE CORE POWER SUPPLY: Core (logic) source voltage. Writes to the flash array are inhibited  when VCC =< VLKO. Operations at invalid VCC voltages should not be attempted.", 38 VCCQ (power) "OUTPUT POWER SUPPLY: Output-driver source voltage.", 43 VPP (power) "ERASE AND PROGRAM POWER: A valid voltage on this pin allows erasing or programming.  Memory contents cannot be altered when VPP =< VPPLK. Block erase and program at invalid VPP  voltages should not be attempted. Set VPP = (See Datasheet)"